# EAGLE library part U6A9030 (library dec-con)
4x2 Memory
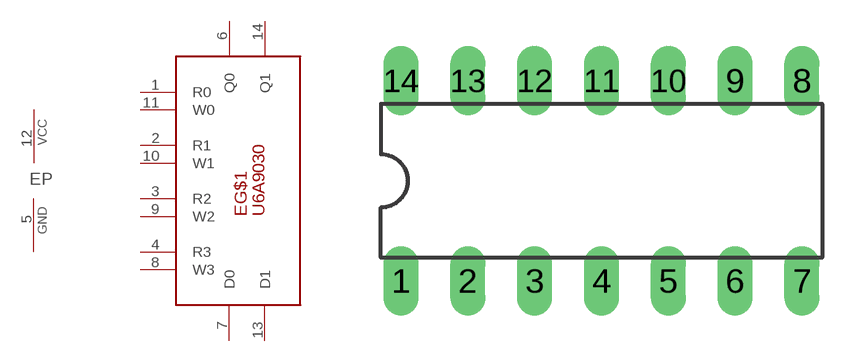
[diagram p105: symbol with the pads of DIL14; footprint DIL14]

Designator prefix E; gates G$1=U6A9030 P=PWRN

## U6A9030  [DIL14]
1  G$1:R0  in
2  G$1:R1  in
3  G$1:R2  in
4  G$1:R3  in
5  P:GND  pwr
6  G$1:Q0  oc
7  G$1:D0  in
8  G$1:W3  in
9  G$1:W2  in
10  G$1:W1  in
11  G$1:W0  in
12  P:VCC  pwr
13  G$1:D1  in
14  G$1:Q1  oc

## Footprint DIL14 (pad centres in mm)
Dual In Line Package
drill 0.813 long: 1 -7.62,-3.81; 2 -5.08,-3.81; 3 -2.54,-3.81; 4 0,-3.81; 5 2.54,-3.81; 6 5.08,-3.81; 7 7.62,-3.81; 8 7.62,3.81; 9 5.08,3.81; 10 2.54,3.81; 11 0,3.81; 12 -2.54,3.81; 13 -5.08,3.81; 14 -7.62,3.81